# Altium integrated library ECS-250-12-33Q-JES-TR.IntLib: 1 symbol
Pins are listed as number, name and electrical type; pins without a type are passive.

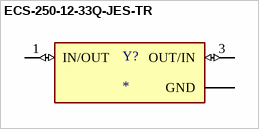
[diagram p0: symbol ECS-250-12-33Q-JES-TR]

## ECS-250-12-33Q-JES-TR
designator Y?
25 MHz Â±20ppm Crystal 12pF 40 Ohms 4-SMD, No Lead; MF: ECS Inc.; MP: ECS-250-12-33Q-JES-TR; SnapEDA_Link: https://www.snapeda.com/parts/ECS-250-12-33Q-JES-TR/ECS/view-part/?ref=snap; Package: ECX-33Q-33Q-4 ECS; Value: *; Check_prices: https://www.snapeda.com/parts/ECS-250-12-33Q-JES-TR/ECS/view-part/?ref=eda
footprint XTAL_ECS-250-12-33Q-JES-TR
pins: 1 IN/OUT (io), 2 GND (power), 3 OUT/IN (io), 4 GND (power)